# EAGLE library part INA285AIDR (library INA285-AID)
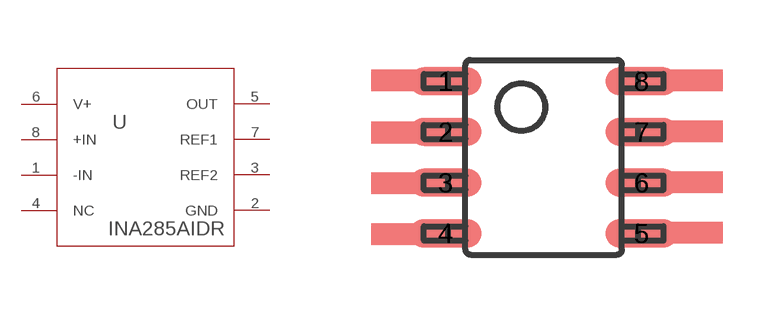
[diagram p0: symbol with the pads of D0008A_M; footprint D0008A_M]

Designator prefix U

## INA285AIDR  [D0008A_M]
1  -IN  in
2  GND  pwr
3  REF2  in
4  NC  pas
5  OUT  out
6  V+  pwr
7  REF1  in
8  +IN  in

## Footprint D0008A_M (pad centres in mm)
smd 1.8 x 0.7: 1 -2.45,1.905; 2 -2.45,0.635; 3 -2.45,-0.635; 4 -2.45,-1.905; 5 2.45,-1.905; 6 2.45,-0.635; 7 2.45,0.635; 8 2.45,1.905